# Altium footprint library PROTECT_TVS_ESD_FUSE.PcbLib: 75 footprints (part 4 of 5)
Each footprint in its own frame and in the unit in brackets; x right, y up, seen from the top. Pads: shape width x height; smd on the part's side, far side on the other; paste and mask are expansions set on the pad; w line width, h text height; cw(c..) or ccw(c..) is an arc to the next point about the centre after c.
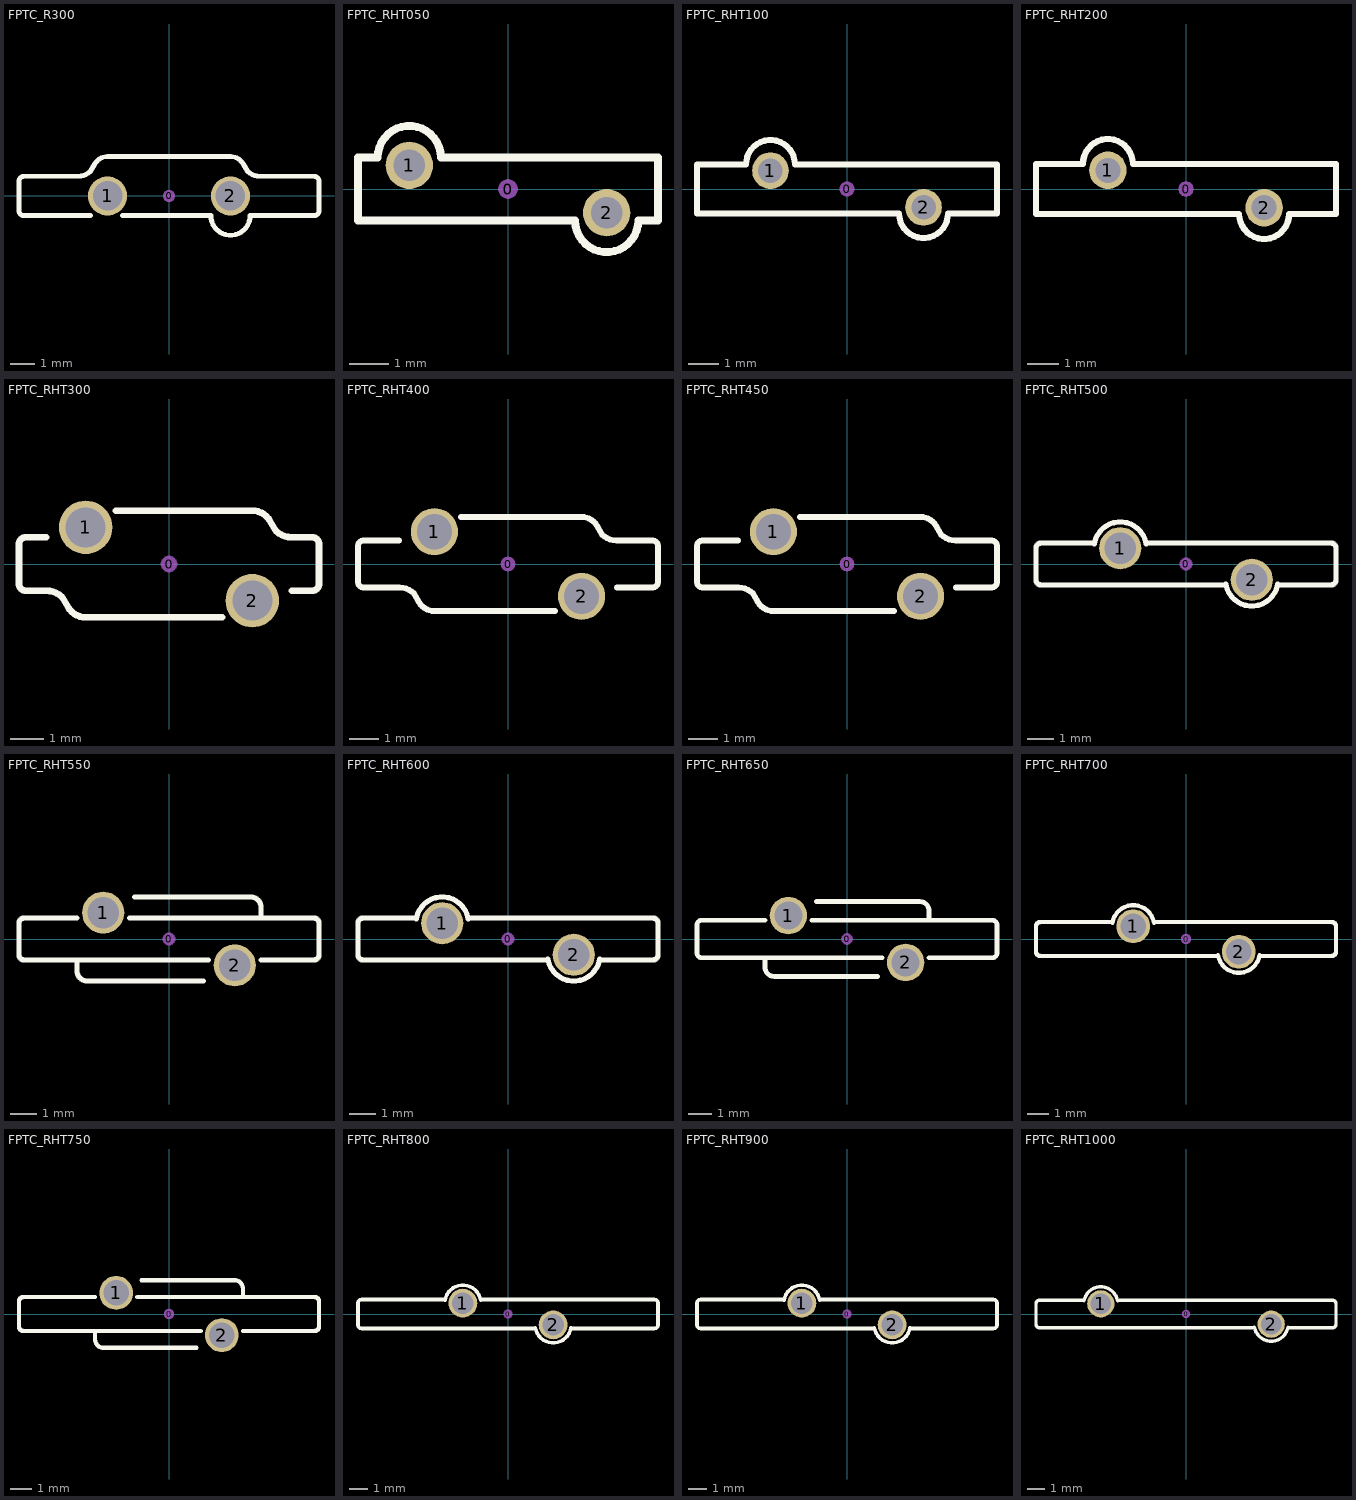
[diagram p3: the footprints below, top view; thin cyan lines are the x and y axes]

## FPTC_R300 [mm] "Fuse PTC, MF-R300, 12mm width"
height 15
pads (3):
  round 0.5 on Mech15: 0(0,0)
  round 1.6 / inner round 1.6 / far side round 2.4 hole 1.2: 1(-2.5,0) 2(2.5,0)
Top Overlay:
  lines w0.2: -3.2,-0.8 -5.9,-0.8 cw(c-5.9,-0.6) -6.1,-0.6 -6.1,0.6 cw(c-5.9,0.6) -5.9,0.8 -3.683,0.8 ccw(c-3.683,1.483) -3.2,1 -3.02,1.3 cw(c-2.5,1) -2.5,1.6 2.5,1.6 cw(c2.5,1) 3.02,1.3 3.2,1 ccw(c3.683,1.483) 3.683,0.8 5.9,0.8 cw(c5.9,0.6) 6.1,0.6 6.1,-0.6 cw(c5.9,-0.6) 5.9,-0.8 3.3,-0.8 cw(c2.5,-0.8) 1.7,-0.8 -1.9,-0.8
3D body "TH pad - 20 pin x 90.STEP": height 1.02, standoff 0, extent -3.666,-1.117 -1.382,1.167
3D body "TH pad - 20 pin x 90.STEP": height 1.02, standoff 0, extent 1.384,-1.167 3.668,1.117
3D body "MF-R300.step": height 18, standoff -7.9, extent -6,-1.54 6,1.5

## FPTC_RHT050 [mm] "Fuse PTC, MF-RHT050, 7.4mm width"
height 13
pads (3):
  round 0.5 on Mech15: 0(0,0)
  round 1.2 / inner round 1.2 / far side round 2 hole 0.8: 1(-2.5,0.6) 2(2.5,-0.6)
Top Overlay:
  lines w0.2: -3.8,-0.8 -3.8,0.8 -3.3,0.8 cw(c-2.5,0.8) -1.7,0.8 3.8,0.8 3.8,-0.8 3.3,-0.8 cw(c2.5,-0.8) 1.7,-0.8 -3.8,-0.8
3D body "TH pad - 20 pin x 90.STEP": height 1.02, standoff 0, extent 1.384,-1.767 3.668,0.517
3D body "TH pad - 20 pin x 90.STEP": height 1.02, standoff 0, extent -3.666,-0.517 -1.382,1.767
3D body "MF-RHT050.step": height 12.7, standoff -4, extent -3.7,-1.433 3.7,1.433

## FPTC_RHT100 [mm] "Fuse PTC, MF-RHT100, 9.7mm"
height 14
pads (3):
  round 0.5 on Mech15: 0(0,0)
  round 1.2 / inner round 1.2 / far side round 2 hole 0.8: 1(-2.5,0.6) 2(2.5,-0.6)
Top Overlay:
  lines w0.2: -4.9,-0.8 1.7,-0.8 ccw(c2.5,-0.8) 3.3,-0.8 4.9,-0.8 4.9,0.8 -1.7,0.8 ccw(c-2.5,0.8) -3.3,0.8 -4.9,0.8 -4.9,-0.8
3D body "TH pad - 20 pin x 90.STEP": height 1.02, standoff 0, extent -3.666,-0.517 -1.382,1.767
3D body "TH pad - 20 pin x 90.STEP": height 1.02, standoff 0, extent 1.384,-1.767 3.668,0.517
3D body "MF-RHT100.step": height 13.85, standoff -4, extent -4.85,-1.433 4.85,1.433

## FPTC_RHT200 [mm] "Fuse PTC, MF-RHT200, 9.4mm"
height 15
pads (3):
  round 0.5 on Mech15: 0(0,0)
  round 1.2 / inner round 1.2 / far side round 2 hole 0.8: 1(-2.5,0.6) 2(2.5,-0.6)
Top Overlay:
  lines w0.2: -4.8,-0.8 -4.8,0.8 -3.3,0.8 cw(c-2.5,0.8) -1.7,0.8 4.8,0.8 4.8,-0.8 3.3,-0.8 cw(c2.5,-0.8) 1.7,-0.8 -4.8,-0.8
3D body "MF-RHT200.step": height 14.2, standoff -3.5, extent -4.7,-1.433 4.7,1.433
3D body "TH pad - 20 pin x 90.STEP": height 1.02, standoff 0, extent 1.384,-1.767 3.668,0.517
3D body "TH pad - 20 pin x 90.STEP": height 1.02, standoff 0, extent -3.666,-0.517 -1.382,1.767

## FPTC_RHT300 [mm] "Fuse PTC, MF-RHT300, 8.8mm"
height 15
pads (3):
  round 0.5 on Mech15: 0(0,0)
  round 1.6 / inner round 1.6 / far side round 2.4 hole 1.2: 1(-2.5,1.1) 2(2.5,-1.1)
Top Overlay:
  lines w0.2: -3.683,0.8 -4.3,0.8 ccw(c-4.3,0.6) -4.5,0.6 -4.5,-0.6 ccw(c-4.3,-0.6) -4.3,-0.8 -3.683,-0.8 cw(c-3.683,-1.483) -3.2,-1 -3.02,-1.3 ccw(c-2.5,-1) -2.5,-1.6 1.6,-1.6 ; -1.6,1.6 2.5,1.6 cw(c2.5,1) 3.02,1.3 3.2,1 ccw(c3.683,1.483) 3.683,0.8 4.3,0.8 cw(c4.3,0.6) 4.5,0.6 4.5,-0.6 cw(c4.3,-0.6) 4.3,-0.8 3.683,-0.8
3D body "MF-RHT300.step": height 13.71, standoff -3.59, extent -4.4,-1.459 4.4,1.459
3D body "TH pad - 20 pin x 90.STEP": height 1.02, standoff 0, extent 1.384,-2.267 3.668,0.017
3D body "TH pad - 20 pin x 90.STEP": height 1.02, standoff 0, extent -3.666,-0.017 -1.382,2.267

## FPTC_RHT400 [mm] "Fuse PTC, MF-RHT400, 10mm"
height 15
pads (3):
  round 0.5 on Mech15: 0(0,0)
  round 1.6 / inner round 1.6 / far side round 2.4 hole 1.2: 1(-2.5,1.1) 2(2.5,-1.1)
Top Overlay:
  lines w0.2: -3.7,0.8 -4.9,0.8 ccw(c-4.9,0.6) -5.1,0.6 -5.1,-0.6 ccw(c-4.9,-0.6) -4.9,-0.8 -3.683,-0.8 cw(c-3.683,-1.483) -3.2,-1 -3.02,-1.3 ccw(c-2.5,-1) -2.5,-1.6 1.6,-1.6 ; -1.6,1.6 2.5,1.6 cw(c2.5,1) 3.02,1.3 3.2,1 ccw(c3.683,1.483) 3.683,0.8 4.9,0.8 cw(c4.9,0.6) 5.1,0.6 5.1,-0.6 cw(c4.9,-0.6) 4.9,-0.8 3.7,-0.8
3D body "MF-RHT400.step": height 14.75, standoff -3.75, extent -5,-1.459 5,1.459

## FPTC_RHT450 [mm] "Fuse PTC, MF-RHT450, 10.4mm"
height 15
pads (3):
  round 0.5 on Mech15: 0(0,0)
  round 1.6 / inner round 1.6 / far side round 2.4 hole 1.2: 1(-2.5,1.1) 2(2.5,-1.1)
Top Overlay:
  lines w0.2: -3.7,0.8 -4.9,0.8 ccw(c-4.9,0.6) -5.1,0.6 -5.1,-0.6 ccw(c-4.9,-0.6) -4.9,-0.8 -3.683,-0.8 cw(c-3.683,-1.483) -3.2,-1 -3.02,-1.3 ccw(c-2.5,-1) -2.5,-1.6 1.6,-1.6 ; -1.6,1.6 2.5,1.6 cw(c2.5,1) 3.02,1.3 3.2,1 ccw(c3.683,1.483) 3.683,0.8 4.9,0.8 cw(c4.9,0.6) 5.1,0.6 5.1,-0.6 cw(c4.9,-0.6) 4.9,-0.8 3.7,-0.8
3D body "MF-RHT450.step": height 15.52, standoff -3.56, extent -5.2,-1.459 5.2,1.459

## FPTC_RHT500 [mm] "Fuse PTC, MF-RHT500, 11.2mm"
height 15
pads (3):
  round 0.5 on Mech15: 0(0,0)
  round 1.6 / inner round 1.6 / far side round 2.4 hole 1.2: 1(-2.5,0.6) 2(2.5,-0.6)
Top Overlay:
  lines w0.2: -3.5,0.8 -5.5,0.8 ccw(c-5.5,0.6) -5.7,0.6 -5.7,-0.6 ccw(c-5.5,-0.6) -5.5,-0.8 1.5,-0.8 ; -3.485,0.774 cw(c-2.5,0.6) -1.515,0.774 ; -1.5,0.8 5.5,0.8 cw(c5.5,0.6) 5.7,0.6 5.7,-0.6 cw(c5.5,-0.6) 5.5,-0.8 3.5,-0.8 ; 1.515,-0.774 ccw(c2.5,-0.6) 3.485,-0.774
3D body "MF-RHT500.step": height 14.1, standoff -6.1, extent -5.6,-1.448 5.6,1.448

## FPTC_RHT550 [mm] "Fuse PTC, MF-RHT550, 11.2mm"
height 19
pads (3):
  round 0.5 on Mech15: 0(0,0)
  round 1.6 / inner round 1.6 / far side round 2.4 hole 1.2: 1(-2.5,1) 2(2.5,-1)
Top Overlay:
  lines w0.2: -3.5,-0.8 -3.5,-1.2 ccw(c-3.1,-1.2) -3.1,-1.6 1.3,-1.6 ; -3.5,0.8 -5.5,0.8 ccw(c-5.5,0.6) -5.7,0.6 -5.7,-0.6 ccw(c-5.5,-0.6) -5.5,-0.8 1.5,-0.8 ; -1.5,0.8 5.5,0.8 cw(c5.5,0.6) 5.7,0.6 5.7,-0.6 cw(c5.5,-0.6) 5.5,-0.8 3.5,-0.8 ; -1.3,1.6 3.1,1.6 cw(c3.1,1.2) 3.5,1.2 3.5,0.8
3D body "MF-RHT550.step": height 18.21, standoff -3.92, extent -5.6,-1.459 5.6,1.459

## FPTC_RHT600 [mm] "Fuse PTC, MF-RHT600, 11.2mm"
height 19
pads (3):
  round 0.5 on Mech15: 0(0,0)
  round 1.6 / inner round 1.6 / far side round 2.4 hole 1.2: 1(-2.5,0.6) 2(2.5,-0.6)
Top Overlay:
  lines w0.2: -3.5,0.8 -5.5,0.8 ccw(c-5.5,0.6) -5.7,0.6 -5.7,-0.6 ccw(c-5.5,-0.6) -5.5,-0.8 1.5,-0.8 ; -3.485,0.774 cw(c-2.5,0.6) -1.515,0.774 ; -1.5,0.8 5.5,0.8 cw(c5.5,0.6) 5.7,0.6 5.7,-0.6 cw(c5.5,-0.6) 5.5,-0.8 3.5,-0.8 ; 1.515,-0.774 ccw(c2.5,-0.6) 3.485,-0.774
3D body "MF-RHT600.step": height 15.3, standoff -6.9, extent -5.6,-1.455 5.6,1.455

## FPTC_RHT650 [mm] "Fuse PTC, MF-RHT650, 12.7mm"
height 19
pads (3):
  round 0.5 on Mech15: 0(0,0)
  round 1.6 / inner round 1.6 / far side round 2.4 hole 1.2: 1(-2.5,1) 2(2.5,-1)
Top Overlay:
  lines w0.2: -3.5,-0.8 -3.5,-1.2 ccw(c-3.1,-1.2) -3.1,-1.6 1.3,-1.6 ; -3.5,0.8 -6.2,0.8 ccw(c-6.2,0.6) -6.4,0.6 -6.4,-0.6 ccw(c-6.2,-0.6) -6.2,-0.8 1.5,-0.8 ; -1.5,0.8 6.2,0.8 cw(c6.2,0.6) 6.4,0.6 6.4,-0.6 cw(c6.2,-0.6) 6.2,-0.8 3.5,-0.8 ; -1.3,1.6 3.1,1.6 cw(c3.1,1.2) 3.5,1.2 3.5,0.8
3D body "MF-RHT650.step": height 21.49, standoff -3.76, extent -6.35,-1.459 6.35,1.459

## FPTC_RHT700 [mm] "Fuse PTC, MF-RHT700, 14mm"
height 19
pads (3):
  round 0.5 on Mech15: 0(0,0)
  round 1.6 / inner round 1.6 / far side round 2.4 hole 1.2: 1(-2.5,0.6) 2(2.5,-0.6)
Top Overlay:
  lines w0.2: -3.5,0.8 -6.9,0.8 ccw(c-6.9,0.6) -7.1,0.6 -7.1,-0.6 ccw(c-6.9,-0.6) -6.9,-0.8 1.5,-0.8 ; -3.485,0.774 cw(c-2.5,0.6) -1.515,0.774 ; -1.5,0.8 6.9,0.8 cw(c6.9,0.6) 7.1,0.6 7.1,-0.6 cw(c6.9,-0.6) 6.9,-0.8 3.5,-0.8 ; 1.515,-0.774 ccw(c2.5,-0.6) 3.485,-0.774
3D body "MF-RHT700.step": height 19.5, standoff -5.5, extent -7,-1.457 7,1.457

## FPTC_RHT750 [mm] "Fuse PTC, MF-RHT750, 14mm"
height 22
pads (3):
  round 0.5 on Mech15: 0(0,0)
  round 1.6 / inner round 1.6 / far side round 2.4 hole 1.2: 1(-2.5,1) 2(2.5,-1)
Top Overlay:
  lines w0.2: -3.5,-0.8 -3.5,-1.2 ccw(c-3.1,-1.2) -3.1,-1.6 1.3,-1.6 ; -3.5,0.8 -6.9,0.8 ccw(c-6.9,0.6) -7.1,0.6 -7.1,-0.6 ccw(c-6.9,-0.6) -6.9,-0.8 1.5,-0.8 ; -1.5,0.8 6.9,0.8 cw(c6.9,0.6) 7.1,0.6 7.1,-0.6 cw(c6.9,-0.6) 6.9,-0.8 3.5,-0.8 ; -1.3,1.6 3.1,1.6 cw(c3.1,1.2) 3.5,1.2 3.5,0.8
3D body "MF-RHT750.step": height 21.35, standoff -3.76, extent -7,-1.459 7,1.459

## FPTC_RHT800 [mm] "Fuse PTC, MF-RHT800, 16.4mm"
height 23
pads (3):
  round 0.5 on Mech15: 0(0,0)
  round 1.6 / inner round 1.6 / far side round 2.4 hole 1.2: 1(-2.5,0.6) 2(2.5,-0.6)
Top Overlay:
  lines w0.2: -3.5,0.8 -8.1,0.8 ccw(c-8.1,0.6) -8.3,0.6 -8.3,-0.6 ccw(c-8.1,-0.6) -8.1,-0.8 1.5,-0.8 ; -3.485,0.774 cw(c-2.5,0.6) -1.515,0.774 ; -1.5,0.8 8.1,0.8 cw(c8.1,0.6) 8.3,0.6 8.3,-0.6 cw(c8.1,-0.6) 8.1,-0.8 3.5,-0.8 ; 1.515,-0.774 ccw(c2.5,-0.6) 3.485,-0.774
3D body "MF-RHT800.step": height 21.75, standoff -6.75, extent -8.25,-1.461 8.25,1.461

## FPTC_RHT900 [mm] "Fuse PTC, MF-RHT900, 16.5mm"
height 27
pads (3):
  round 0.5 on Mech15: 0(0,0)
  round 1.6 / inner round 1.6 / far side round 2.4 hole 1.2: 1(-2.5,0.6) 2(2.5,-0.6)
Top Overlay:
  lines w0.2: -3.5,0.8 -8.1,0.8 ccw(c-8.1,0.6) -8.3,0.6 -8.3,-0.6 ccw(c-8.1,-0.6) -8.1,-0.8 1.5,-0.8 ; -3.485,0.774 cw(c-2.5,0.6) -1.515,0.774 ; -1.5,0.8 8.1,0.8 cw(c8.1,0.6) 8.3,0.6 8.3,-0.6 cw(c8.1,-0.6) 8.1,-0.8 3.5,-0.8 ; 1.515,-0.774 ccw(c2.5,-0.6) 3.485,-0.774
3D body "MF-RHT900.step": height 25.75, standoff -5.75, extent -8.25,-1.467 8.25,1.467

## FPTC_RHT1000 [mm] "Fuse PTC, MF-RHT1000, 17.5mm"
height 27
pads (3):
  round 0.5 on Mech15: 0(0,0)
  round 1.6 / inner round 1.6 / far side round 2.4 hole 1.2: 1(-5,0.6) 2(5,-0.6)
Top Overlay:
  lines w0.2: -6,0.8 -8.6,0.8 ccw(c-8.6,0.6) -8.8,0.6 -8.8,-0.6 ccw(c-8.6,-0.6) -8.6,-0.8 3.9,-0.8 ; -5.985,0.774 cw(c-5,0.6) -4.015,0.774 ; -3.9,0.8 8.6,0.8 cw(c8.6,0.6) 8.8,0.6 8.8,-0.6 cw(c8.6,-0.6) 8.6,-0.8 6,-0.8 ; 4.015,-0.774 ccw(c5,-0.6) 5.985,-0.774
3D body "MF-RHT1000.step": height 26.75, standoff -5.75, extent -8.75,-1.467 8.75,1.467